# Altium schematic symbol library Sensors_Optical_Phototransistors_GOST.SchLib: 1 symbol
Pins are listed as number, name and electrical type; pins without a type are passive.

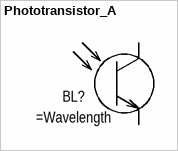
[diagram p0: symbol Phototransistor_A]

## Phototransistor_A
designator BL?
pins: 1 "Cathode", 2 "Cathode"